# Altium footprint library OBC_boardV1.PcbLib: 4 footprints
Each footprint in its own frame and in the unit in brackets; x right, y up, seen from the top. Pads: shape width x height; smd on the part's side, far side on the other; paste and mask are expansions set on the pad; w line width, h text height; cw(c..) or ccw(c..) is an arc to the next point about the centre after c.
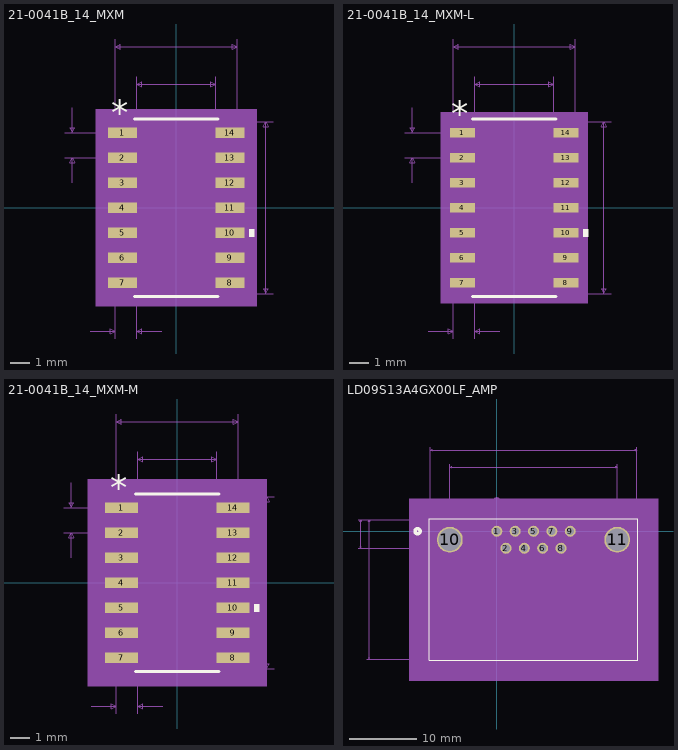
[diagram p0: the footprints below, top view; thin cyan lines are the x and y axes]

## 21-0041B_14_MXM [mil]
pads (14):
  rect 57.5x21 smd paste+0 mask+0: 1(-107.25,150) 2(-107.25,100) 3(-107.25,50) 4(-107.25,0) 5(-107.25,-50) 6(-107.25,-100) 7(-107.25,-150) 8(107.25,-150) 9(107.25,-100) 10(107.25,-50) 11(107.25,0) 12(107.25,50) 13(107.25,100) 14(107.25,150)
Top Overlay:
  region: 146,-42.5 156,-42.5 156,-57.5 146,-57.5
  lines w6: -83.5,-177 83.5,-177 ; -83.5,177 83.5,177
  text "*" at -129.75,166 h50
Mechanical 5:
  region: 161,-197 -161,-197 -161,197 161,197
Mechanical 7:
  lines w1: -222.25,100 -107.25,100 ; -222.25,150 -107.25,150 ; -207.25,50 -207.25,100 ; -207.25,200 -207.25,150 ; -172,-247 -122,-247 ; -122,-262 -122,0 -122,337 ; -78.5,-262 -78.5,0 -78.5,262 ; -28.5,-247 -78.5,-247 ; 0,-172 193.5,-172 ; 0,172 193.5,172 ; 78.5,0 78.5,262 ; 122,0 122,337 ; -207.25,100 -202.25,90 -212.25,90 -207.25,100 ; -207.25,150 -202.25,160 -212.25,160 -207.25,150 ; -122,-247 -132,-252 -132,-242 -122,-247 ; -122,322 -112,317 -112,327 -122,322 ; -122,322 122,322 ; -78.5,-247 -68.5,-252 -68.5,-242 -78.5,-247 ; -78.5,247 -68.5,242 -68.5,252 -78.5,247 ; -78.5,247 78.5,247 ; 78.5,247 68.5,242 68.5,252 78.5,247 ; 122,322 112,317 112,327 122,322 ; 178.5,-172 183.5,-162 173.5,-162 178.5,-172 ; 178.5,-172 178.5,172 ; 178.5,172 183.5,162 173.5,162 178.5,172
  text "0.05in/1.27mm" at -181.5,-292 h25
  text "0.05in/1.27mm" at -389.75,112.5 h25
  text "0.344in/8.738mm" at 198.5,-12.5 h25
  text "0.244in/6.198mm" at -93.75,342 h25
  text "0.157in/3.988mm" at -93.75,267 h25
  text "Alt 2 Padstyle: OX90Y60D30P" at -337.5,-672 h50
  text "Alt 1 Padstyle: OX60Y90D30P" at -337.5,-612 h50
  text "Pin One Padstyle: RX57p5Y21D0T" at -375,-432 h50
  text "Default Padstyle: RX57p5Y21D0T" at -375,-372 h50
Mechanical 13:
  lines w0: -12,172 ccw(c0,172) 12,172
  lines w1: -122,-159.5 -78.5,-159.5 -78.5,-140.5 -122,-140.5 -122,-159.5 ; -122,-109.5 -78.5,-109.5 -78.5,-90.5 -122,-90.5 -122,-109.5 ; -122,-59.5 -78.5,-59.5 -78.5,-40.5 -122,-40.5 -122,-59.5 ; -122,-9.5 -78.5,-9.5 -78.5,9.5 -122,9.5 -122,-9.5 ; -122,40.5 -78.5,40.5 -78.5,59.5 -122,59.5 -122,40.5 ; -122,90.5 -78.5,90.5 -78.5,109.5 -122,109.5 -122,90.5 ; -122,140.5 -78.5,140.5 -78.5,159.5 -122,159.5 -122,140.5 ; -78.5,-172 -78.5,172 78.5,172 78.5,-172 -78.5,-172 ; 78.5,-159.5 122,-159.5 122,-140.5 78.5,-140.5 78.5,-159.5 ; 78.5,-109.5 122,-109.5 122,-90.5 78.5,-90.5 78.5,-109.5 ; 78.5,-59.5 122,-59.5 122,-40.5 78.5,-40.5 78.5,-59.5 ; 78.5,-9.5 122,-9.5 122,9.5 78.5,9.5 78.5,-9.5 ; 78.5,40.5 122,40.5 122,59.5 78.5,59.5 78.5,40.5 ; 78.5,90.5 122,90.5 122,109.5 78.5,109.5 78.5,90.5 ; 78.5,140.5 122,140.5 122,159.5 78.5,159.5 78.5,140.5
  text "*" at -76,119 h50
Mechanical 15:
  region: -88.5,-170.5 -146,-170.5 -146,170.5 -88.5,170.5 -88.5,182 88.5,182 88.5,170.5 146,170.5 146,-170.5 88.5,-170.5 88.5,-182 -88.5,-182
  lines w6: -146,-170.5 -88.5,-170.5 -88.5,-182 88.5,-182 88.5,-170.5 146,-170.5 146,170.5 88.5,170.5 88.5,182 -88.5,182 -88.5,170.5 -146,170.5 -146,-170.5
3D body "21-0041B_14_MXM.step": height 69.09, standoff 0, extent -122.01,-172.01 122.01,172
3D body: height 10, standoff 0, extent 0,0 10,10

## 21-0041B_14_MXM-L [mil]
pads (14):
  rect 49.5x19 smd paste+0 mask+0: 1(-103.25,150) 2(-103.25,100) 3(-103.25,50) 4(-103.25,0) 5(-103.25,-50) 6(-103.25,-100) 7(-103.25,-150) 8(103.25,-150) 9(103.25,-100) 10(103.25,-50) 11(103.25,0) 12(103.25,50) 13(103.25,100) 14(103.25,150)
Top Overlay:
  region: 138,-42.5 148,-42.5 148,-57.5 138,-57.5
  lines w6: -83.5,-177 83.5,-177 ; -83.5,177 83.5,177
  text "*" at -125.75,164 h50
Mechanical 5:
  region: 147,-191 -147,-191 -147,191 147,191
Mechanical 7:
  lines w1: -218.25,100 -103.25,100 ; -218.25,150 -103.25,150 ; -203.25,50 -203.25,100 ; -203.25,200 -203.25,150 ; -172,-247 -122,-247 ; -122,-262 -122,0 -122,337 ; -78.5,-262 -78.5,0 -78.5,262 ; -28.5,-247 -78.5,-247 ; 0,-172 193.5,-172 ; 0,172 193.5,172 ; 78.5,0 78.5,262 ; 122,0 122,337 ; -203.25,100 -198.25,90 -208.25,90 -203.25,100 ; -203.25,150 -198.25,160 -208.25,160 -203.25,150 ; -122,-247 -132,-252 -132,-242 -122,-247 ; -122,322 -112,317 -112,327 -122,322 ; -122,322 122,322 ; -78.5,-247 -68.5,-252 -68.5,-242 -78.5,-247 ; -78.5,247 -68.5,242 -68.5,252 -78.5,247 ; -78.5,247 78.5,247 ; 78.5,247 68.5,242 68.5,252 78.5,247 ; 122,322 112,317 112,327 122,322 ; 178.5,-172 183.5,-162 173.5,-162 178.5,-172 ; 178.5,-172 178.5,172 ; 178.5,172 183.5,162 173.5,162 178.5,172
  text "0.05in/1.27mm" at -181.5,-292 h25
  text "0.05in/1.27mm" at -385.75,112.5 h25
  text "0.344in/8.738mm" at 198.5,-12.5 h25
  text "0.244in/6.198mm" at -93.75,342 h25
  text "0.157in/3.988mm" at -93.75,267 h25
  text "Alt 2 Padstyle: OX90Y60D30P" at -337.5,-672 h50
  text "Alt 1 Padstyle: OX60Y90D30P" at -337.5,-612 h50
  text "Pin One Padstyle: RX49p5Y19D0T" at -375,-432 h50
  text "Default Padstyle: RX49p5Y19D0T" at -375,-372 h50
Mechanical 13:
  lines w0: -12,172 ccw(c0,172) 12,172
  lines w1: -122,-159.5 -78.5,-159.5 -78.5,-140.5 -122,-140.5 -122,-159.5 ; -122,-109.5 -78.5,-109.5 -78.5,-90.5 -122,-90.5 -122,-109.5 ; -122,-59.5 -78.5,-59.5 -78.5,-40.5 -122,-40.5 -122,-59.5 ; -122,-9.5 -78.5,-9.5 -78.5,9.5 -122,9.5 -122,-9.5 ; -122,40.5 -78.5,40.5 -78.5,59.5 -122,59.5 -122,40.5 ; -122,90.5 -78.5,90.5 -78.5,109.5 -122,109.5 -122,90.5 ; -122,140.5 -78.5,140.5 -78.5,159.5 -122,159.5 -122,140.5 ; -78.5,-172 -78.5,172 78.5,172 78.5,-172 -78.5,-172 ; 78.5,-159.5 122,-159.5 122,-140.5 78.5,-140.5 78.5,-159.5 ; 78.5,-109.5 122,-109.5 122,-90.5 78.5,-90.5 78.5,-109.5 ; 78.5,-59.5 122,-59.5 122,-40.5 78.5,-40.5 78.5,-59.5 ; 78.5,-9.5 122,-9.5 122,9.5 78.5,9.5 78.5,-9.5 ; 78.5,40.5 122,40.5 122,59.5 78.5,59.5 78.5,40.5 ; 78.5,90.5 122,90.5 122,109.5 78.5,109.5 78.5,90.5 ; 78.5,140.5 122,140.5 122,159.5 78.5,159.5 78.5,140.5
  text "*" at -76,119 h50
Mechanical 15:
  region: -82.5,-163.5 -132,-163.5 -132,163.5 -82.5,163.5 -82.5,176 82.5,176 82.5,163.5 132,163.5 132,-163.5 82.5,-163.5 82.5,-176 -82.5,-176
  lines w6: -132,-163.5 -82.5,-163.5 -82.5,-176 82.5,-176 82.5,-163.5 132,-163.5 132,163.5 82.5,163.5 82.5,176 -82.5,176 -82.5,163.5 -132,163.5 -132,-163.5
3D body: height 10, standoff 0, extent 0,0 10,10
3D body "21-0041B_14_MXM.step": height 69.09, standoff 0, extent -122.01,-172.01 122.01,172.01

## 21-0041B_14_MXM-M [mil]
pads (14):
  rect 65.5x21 smd paste+0 mask+0: 1(-111.25,150) 2(-111.25,100) 3(-111.25,50) 4(-111.25,0) 5(-111.25,-50) 6(-111.25,-100) 7(-111.25,-150) 8(111.25,-150) 9(111.25,-100) 10(111.25,-50) 11(111.25,0) 12(111.25,50) 13(111.25,100) 14(111.25,150)
Top Overlay:
  region: 154,-42.5 164,-42.5 164,-57.5 154,-57.5
  lines w6: -83.5,-177 83.5,-177 ; -83.5,177 83.5,177
  text "*" at -133.75,166 h50
Mechanical 5:
  region: 179,-207 -179,-207 -179,207 179,207
Mechanical 7:
  lines w1: -226.25,100 -111.25,100 ; -226.25,150 -111.25,150 ; -211.25,50 -211.25,100 ; -211.25,200 -211.25,150 ; -172,-247 -122,-247 ; -122,-262 -122,0 -122,337 ; -78.5,-262 -78.5,0 -78.5,262 ; -28.5,-247 -78.5,-247 ; 0,-172 193.5,-172 ; 0,172 193.5,172 ; 78.5,0 78.5,262 ; 122,0 122,337 ; -211.25,100 -216.25,90 -206.25,90 -211.25,100 ; -211.25,150 -216.25,160 -206.25,160 -211.25,150 ; -122,-247 -132,-242 -132,-252 -122,-247 ; -122,322 122,322 ; -122,322 -112,327 -112,317 -122,322 ; -78.5,-247 -68.5,-242 -68.5,-252 -78.5,-247 ; -78.5,247 78.5,247 ; -78.5,247 -68.5,252 -68.5,242 -78.5,247 ; 78.5,247 68.5,252 68.5,242 78.5,247 ; 122,322 112,327 112,317 122,322 ; 178.5,-172 178.5,172 ; 178.5,-172 173.5,-162 183.5,-162 178.5,-172 ; 178.5,172 173.5,162 183.5,162 178.5,172
  text "Default Padstyle: RX65p5Y21D0T" at -375,-372 h50
  text "Pin One Padstyle: RX65p5Y21D0T" at -375,-432 h50
  text "Alt 1 Padstyle: OX60Y90D30P" at -337.5,-612 h50
  text "Alt 2 Padstyle: OX90Y60D30P" at -337.5,-672 h50
  text "0.157in/3.988mm" at -93.75,267 h25
  text "0.244in/6.198mm" at -93.75,342 h25
  text "0.344in/8.738mm" at 198.5,-12.5 h25
  text "0.05in/1.27mm" at -393.75,112.5 h25
  text "0.05in/1.27mm" at -181.5,-292 h25
Mechanical 13:
  lines w0: -12,172 ccw(c0,172) 12,172
  lines w1: -122,-159.5 -122,-140.5 -78.5,-140.5 -78.5,-159.5 -122,-159.5 ; -122,-109.5 -122,-90.5 -78.5,-90.5 -78.5,-109.5 -122,-109.5 ; -122,-59.5 -122,-40.5 -78.5,-40.5 -78.5,-59.5 -122,-59.5 ; -122,-9.5 -122,9.5 -78.5,9.5 -78.5,-9.5 -122,-9.5 ; -122,40.5 -122,59.5 -78.5,59.5 -78.5,40.5 -122,40.5 ; -122,90.5 -122,109.5 -78.5,109.5 -78.5,90.5 -122,90.5 ; -122,140.5 -122,159.5 -78.5,159.5 -78.5,140.5 -122,140.5 ; -78.5,-172 78.5,-172 78.5,172 -78.5,172 -78.5,-172 ; 78.5,-159.5 78.5,-140.5 122,-140.5 122,-159.5 78.5,-159.5 ; 78.5,-109.5 78.5,-90.5 122,-90.5 122,-109.5 78.5,-109.5 ; 78.5,-59.5 78.5,-40.5 122,-40.5 122,-59.5 78.5,-59.5 ; 78.5,-9.5 78.5,9.5 122,9.5 122,-9.5 78.5,-9.5 ; 78.5,40.5 78.5,59.5 122,59.5 122,40.5 78.5,40.5 ; 78.5,90.5 78.5,109.5 122,109.5 122,90.5 78.5,90.5 ; 78.5,140.5 78.5,159.5 122,159.5 122,140.5 78.5,140.5
  text "*" at -76,119 h50
Mechanical 15:
  region: -98.5,-180.5 -164,-180.5 -164,180.5 -98.5,180.5 -98.5,192 98.5,192 98.5,180.5 164,180.5 164,-180.5 98.5,-180.5 98.5,-192 -98.5,-192
  lines w6: -164,-180.5 -164,180.5 -98.5,180.5 -98.5,192 98.5,192 98.5,180.5 164,180.5 164,-180.5 98.5,-180.5 98.5,-192 -98.5,-192 -98.5,-180.5 -164,-180.5
3D body: height 10, standoff 0, extent 0,0 10,10
3D body "21-0041B_14_MXM.step": height 69.09, standoff 0, extent -122.01,-172 122,172.01

## LD09S13A4GX00LF_AMP [mil]
pads (11):
  round 65 hole 45 mask+0: 1(0,0) 2(53.94,-100) 3(107.87,0) 4(161.81,-100) 5(215.75,0) 6(269.69,-100) 7(323.62,0) 8(377.56,-100) 9(431.5,0)
  round 152 hole 132: 10(-276.18,-50) 11(707.68,-50)
Top Overlay:
  circle w20: c-465.75,0 r15
  lines w6: -395.75,-757.37 827.24,-757.37 827.24,72.32 -395.75,72.32 -395.75,-757.37
Bottom Overlay:
  circle w20: c-465.75,0 r15
Mechanical 5:
  region: -515.75,192.32 947.24,192.32 947.24,-877.37 -515.75,-877.37
Mechanical 7:
  lines w1: -815.75,-100 215.75,-100 -490.75,-100 ; -815.75,67.32 -390.75,67.32 ; -765.75,-752.37 -390.75,-752.37 ; -765.75,67.32 -390.75,67.32 ; -490.75,-50 707.68,-50 707.68,392.32 ; -475.75,-150 -475.75,-100 ; -475.75,0 -475.75,-50 ; -390.75,492.32 -390.75,67.32 ; -276.18,-50 -276.18,392.32 ; -50,152.32 0,152.32 ; 0,-100 937.24,-100 ; 0,167.32 0,0 937.24,0 ; 53.94,0 53.94,167.32 ; 103.94,152.32 53.94,152.32 ; 822.24,67.32 822.24,492.32 ; 922.24,-150 922.24,-100 ; 922.24,50 922.24,0 ; -800.75,-100 -800.75,67.32 ; -800.75,-100 -805.75,-90 -795.75,-90 -800.75,-100 ; -800.75,67.32 -805.75,57.32 -795.75,57.32 -800.75,67.32 ; -750.75,-752.37 -750.75,67.32 ; -750.75,-752.37 -755.75,-742.37 -745.75,-742.37 -750.75,-752.37 ; -750.75,67.32 -755.75,57.32 -745.75,57.32 -750.75,67.32 ; -475.75,-100 -480.75,-110 -470.75,-110 -475.75,-100 ; -475.75,-50 -480.75,-40 -470.75,-40 -475.75,-50 ; -390.75,477.32 822.24,477.32 ; -390.75,477.32 -380.75,482.32 -380.75,472.32 -390.75,477.32 ; -276.18,377.32 707.68,377.32 ; -276.18,377.32 -266.18,382.32 -266.18,372.32 -276.18,377.32 ; 0,152.32 -10,157.32 -10,147.32 0,152.32 ; 53.94,152.32 63.94,157.32 63.94,147.32 53.94,152.32 ; 707.68,377.32 697.68,382.32 697.68,372.32 707.68,377.32 ; 822.24,477.32 812.24,482.32 812.24,472.32 822.24,477.32 ; 922.24,-100 917.24,-110 927.24,-110 922.24,-100 ; 922.24,0 917.24,10 927.24,10 922.24,0
  text "Default Padstyle: EX65Y65D45P" at -146.75,-912.37 h50
  text "1st Mtg Padstyle: EX152Y152D132P" at -184.25,-987.37 h50
  text "2nd Mtg Padstyle: RX50Y100D40P" at -159.25,-1062.37 h50
  text "3rd Mtg Padstyle: RX100Y50D40P" at -159.25,-1137.37 h50
  text "Left Mtg Padstyle: RX50Y100D30P" at -171.75,-1212.37 h50
  text "Right Mtg Padstyle: RX50Y100D30P" at -184.25,-1287.37 h50
  text "Alt Padstyle 1: OX60Y90D30P" at -121.75,-1362.37 h50
  text "Alt Padstyle 2: OX90Y60D30P" at -121.75,-1437.37 h50
  text "0.054in/1.37mm" at -6.59,172.32 h25
  text "0.984in/24.99mm" at 122,397.32 h25
  text "1.213in/30.81mm" at 122,497.32 h25
  text "0.1in/2.54mm" at 942.24,-112.5 h25
  text "0.05in/1.27mm" at -658.25,-87.5 h25
  text "0.167in/4.25mm" at -995.75,-28.84 h25
  text "0.82in/20.82mm" at -945.75,-355.02 h25
Mechanical 13:
  circle w20: c0,175 r15
  lines w1: -390.75,-752.37 822.24,-752.37 822.24,67.32 -390.75,67.32 -390.75,-752.37
Mechanical 15:
  region: 832.24,77.32 -400.75,77.32 -400.75,-762.37 832.24,-762.37
  lines w6: -400.75,-762.37 -400.75,77.32 832.24,77.32 832.24,-762.37 -400.75,-762.37
3D body: height 10, standoff 0, extent 0,0 10,10
3D body "sld09s13a4gx00lf.stp": height 494.09, standoff -159.45, extent -391.54,-748.46 825,68.46